# Altium schematic symbol library Schematic_Components.SchLib: 53 symbols
Pins are listed as number, name and electrical type; pins without a type are passive.

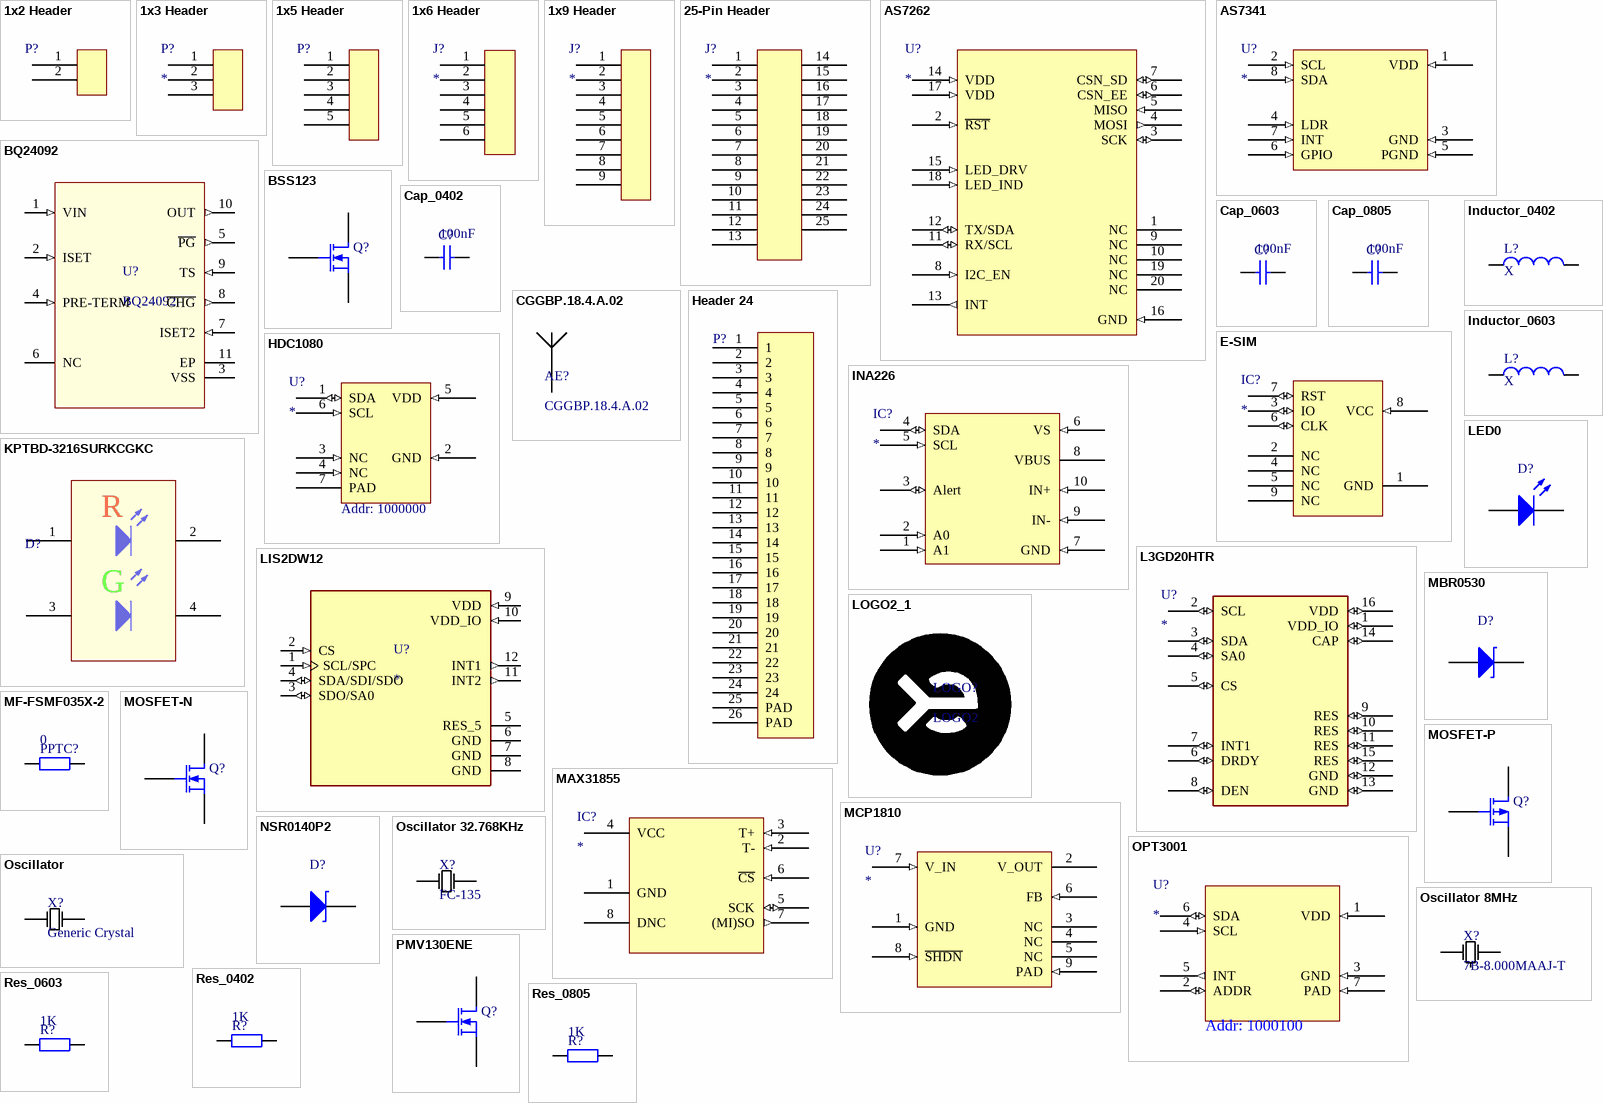
[diagram p0: symbols 1x2 Header to Res_0805]

## 1x2 Header
designator P?
1x2 Header
footprint 1x2 Header 1.27
pins: 1, 2

## 1x3 Header
designator P?
1x3 Header
footprint 1x3 Header 1.27
pins: 1, 2, 3

## 1x5 Header
designator P?
1x5 Header
footprint 1x5 Header 1.27
pins: 1, 2, 3, 4, 5

## 1x6 Header
designator J?
1x6 Header
footprint 1x6 Header 1.27
pins: 1, 2, 3, 4, 5, 6

## 1x9 Header
designator J?
1x9 Header
pins: 1, 2, 3, 4, 5, 6, 7, 8, 9

## 25-Pin Header
designator J?
25-Pin Header DSub
footprint 25-DSub-Rightangle-Female
pins: 1, 2, 3, 4, 5, 6, 7, 8, 9, 10, 11, 12, 13, 14, 15, 16, 17, 18, 19, 20, 21, 22, 23, 24, 25

## AS7262
designator U?
Spectrum Sensor
footprint AS7262
pins: 1 NC, 2 ~{RST} (in), 3 SCK (io), 4 MOSI (out), 5 MISO (in), 6 CSN_EE (io), 7 CSN_SD (io), 8 I2C_EN (in), 9 NC, 10 NC, 11 RX/SCL (io), 12 TX/SDA (io), 13 INT (out), 14 VDD (in), 15 LED_DRV (in), 16 GND (in), 17 VDD (in), 18 LED_IND (in), 19 NC, 20 NC

## AS7341
designator U?
Spectrum Sensor
footprint OLGA-8
pins: 1 VDD (in), 2 SCL (in), 3 GND (in), 4 LDR (in), 5 PGND (in), 6 GPIO (in), 7 INT (in), 8 SDA (in)

## BQ24092
designator U?
Battery Charger
footprint HVSSOP-10
pins: 1 VIN (in), 2 ISET (in), 3 VSS (power), 4 PRE-TERM (in), 5 ~{PG} (out), 6 NC, 7 ISET2 (in), 8 ~{CHG} (out), 9 TS (in), 10 OUT (out), 11 EP (power)

## BSS123
designator Q?
N-Channel MOSFET; Published: 8-Jun-2000; LatestRevisionDate: 17-Jul-2002; LatestRevisionNote: Re-released for DXP Platform.; PackageVersion: 1995/1996; PackageReference: E3; Publisher: Altium Limited; PackageDescription: TO, Flat Index; 3 In-Line, Axial Leads; Body Dia. 4.6mm; Lead Dia. 0.5 mm (max)
simulation model NMOS (MOSFET-N)
footprint SOT-23
footprint SOT-23
pins: 1 G, 2 S, 3 D

## Cap_0402
designator C?  value 100nF
Capacitor; Published: 8-Jun-2000; LatestRevisionDate: 17-Jul-2002; LatestRevisionNote: Re-released for DXP Platform.; PackageReference: RAD-0.3; Publisher: Altium Limited; PackageDescription: Radial Cap, Thru-Hole; 2 Leads; 0.3 in Pin Spacing
footprint 0402
simulation model CAP (Capacitor)
signal-integrity model Cap
pins: 1, 2

## Cap_0603
designator C?  value 100nF
Capacitor; Published: 8-Jun-2000; LatestRevisionDate: 17-Jul-2002; LatestRevisionNote: Re-released for DXP Platform.; PackageReference: RAD-0.3; Publisher: Altium Limited; PackageDescription: Radial Cap, Thru-Hole; 2 Leads; 0.3 in Pin Spacing
simulation model CAP (Capacitor)
signal-integrity model Cap
footprint 0603 (0603 footprint)
pins: 1, 2

## Cap_0805
designator C?  value 100nF
Capacitor; Published: 8-Jun-2000; LatestRevisionDate: 17-Jul-2002; LatestRevisionNote: Re-released for DXP Platform.; PackageReference: RAD-0.3; Publisher: Altium Limited; PackageDescription: Radial Cap, Thru-Hole; 2 Leads; 0.3 in Pin Spacing
simulation model CAP (Capacitor)
signal-integrity model Cap
footprint 0805 (Chip Capacitor, Body 2.0x1.3mm, IPC High Density)
pins: 1, 2

## CGGBP.18.4.A.02
designator AE?
No Description Available; Built_By: EMA_Justin; Vendor: Taoglas Limited; SourceLibrary: Add_to_database_2020-12-18; Datasheet: https://www.mouser.com/datasheet/2/398/CGGBP.18.4.A.02-1218625.pdf; Copyright: Copyright (C) 2018 Accelerated Designs. All rights reserved; Manufacturer_Part_Number: CGGBP.18.4.A.02; RefDes: RefDes; Type: DEV
footprint ANT_CGGBP.18.4.A.02_TAL
pins: 1

## E-SIM
designator IC?
E-Sim
footprint MFF2-ESIM
pins: 1 GND, 2 NC, 3 IO (io), 4 NC, 5 NC, 6 CLK (io), 7 RST (io), 8 VCC (in), 9 NC

## HDC1080
designator U?
Humidity Sensor
footprint PSON95P300X80_HS (PSON, 6-Leads, Body 3,00x3,00mm, Pitch 0,95mm, Thermal Pad 2,40x1,50mm, IPC Medium Density)
pins: 1 SDA (io), 2 GND (in), 3 NC (in), 4 NC (in), 5 VDD (in), 6 SCL (in), 7 PAD
text: Addr: 1000000

## Header 24
designator P?
Header, 24-Pin; LatestRevisionDate: 17-Jul-2002; LatestRevisionNote: Re-released for DXP Platform.; Publisher: Altium Limited
signal-integrity model Connector
footprint Flex_EInc_Connector
pins: 1, 2, 3, 4, 5, 6, 7, 8, 9, 10, 11, 12, 13, 14, 15, 16, 17, 18, 19, 20, 21, 22, 23, 24, 25 PAD, 26 PAD

## INA226
designator IC?
Bi-Directional Current and Power Monitor
footprint VSSOP-10
pins: 1 A1 (in), 2 A0 (in), 3 Alert (io), 4 SDA (io), 5 SCL (in), 6 VS (in), 7 GND (in), 8 VBUS (power), 9 IN- (in), 10 IN+ (in)

## Inductor_0402
designator L?  value X
Inductor
simulation model INDUCTOR (Inductor)
signal-integrity model Inductor
footprint 0402
pins: 1, 2

## Inductor_0603
designator L?  value X
Inductor
simulation model INDUCTOR (Inductor)
signal-integrity model Inductor
footprint 0603 (0603 footprint)
pins: 1, 2

## KPTBD-3216SURKCGKC
designator D?
Dual Led Red/Green; Published: 8-Jun-2000; LatestRevisionDate: 08-Jul-2005; LatestRevisionNote: Mech Layer 1 removed.; PackageReference: LED-0; Publisher: Altium Limited; PackageDescription: LED; 2 Leads
simulation model LED0 (Diode)
footprint 1206_DualLED (Red green Led)
pins: 1, 2, 3, 4
text: R; G

## L3GD20HTR
designator U?
Gyroscope X _Pitch_, Y _Roll_, Z _Yaw_ Â±245, 500, 2000 6.25Hz ~ 400Hz IÂ²C, SPI 16-LGA _3x3_; MF: STMicroelectronics; MP: L3GD20HTR; Digi-Key_Purchase_URL: https://www.digikey.com/product-detail/en/stmicroelectronics/L3GD20HTR/497-13931-1-ND/4357644?utm_source=snapeda&utm_medium=aggregator&utm_campaign=symbol; Digi-Key_Part_Number: 497-13931-1-ND; Package: LGA-16 STMicroelectronics; SnapEDA_Link: https://www.snapeda.com/parts/L3GD20HTR/STMicroelectronics/view-part/125620/?ref=snap; Value: *
footprint LGA-16
pins: 1 VDD_IO (io), 2 SCL (io), 3 SDA (io), 4 SA0 (io), 5 CS (io), 6 DRDY (io), 7 INT1 (io), 8 DEN (io), 9 RES (io), 10 RES (io), 11 RES (io), 12 GND (io), 13 GND (io), 14 CAP (io), 15 RES (io), 16 VDD (io)

## LED0
designator D?
Typical INFRARED GaAs LED; Published: 8-Jun-2000; LatestRevisionDate: 08-Jul-2005; LatestRevisionNote: Mech Layer 1 removed.; PackageReference: LED-0; Publisher: Altium Limited; PackageDescription: LED; 2 Leads
simulation model LED0 (Diode)
footprint 0603 (0603 footprint)
pins: 1 K, 2 A

## LIS2DW12
designator U?
Accelerometer X, Y, Z Axis Â±2g, 4g, 8g, 16g 0.5Hz ~ 672Hz 12-LGA _2x2_; MF: STMicroelectronics; MP: LIS2DH12; SnapEDA_Link: https://www.snapeda.com/parts/LIS2DH12/STMicroelectronics/view-part/480350/?ref=snap; Package: LGA-12 STMicroelectronics; Price: None; Value: *; Availability: Unavailable
footprint LGA-12
pins: 1 SCL/SPC (in), 2 CS (in), 3 SDO/SA0 (io), 4 SDA/SDI/SDO (io), 5 RES_5 (power), 6 GND (power), 7 GND (power), 8 GND (power), 9 VDD (in), 10 VDD_IO (in), 11 INT2 (out), 12 INT1 (out)

## LOGO2_1
designator LOGO?, comment LOGO2
footprint LOGO2

## MAX31855
designator IC?
Thermocouple temperature measurement IC
footprint SO 8
pins: 1 GND (power), 2 T- (in), 3 T+ (in), 4 VCC (power), 5 SCK (io), 6 ~{CS} (in), 7 (MI)SO (out), 8 DNC

## MBR0530
designator D?
SCHOTTKY BARRIER / RECTIFIER; Published: 8-Jun-2000; LatestRevisionDate: 08-Jul-2005; LatestRevisionNote: Mech Layer 1 removed.; PackageReference: LED-0; Publisher: Altium Limited; PackageDescription: LED; 2 Leads
simulation model LED0 (Diode)
footprint SOD-123
pins: 1 K, 2 A

## MCP1810
designator U?
3V Regulator, 150 mA
footprint VDFN8 (2x2mm)
pins: 1 GND (in), 2 V_OUT, 3 NC, 4 NC, 5 NC, 6 FB (in), 7 V_IN (in), 8 ~{SHDN} (in), 9 PAD (in)

## MF-FSMF035X-2
designator PPTC?  value 0
PPTC_0603; Published: 8-Jun-2000; LatestRevisionDate: 17-Jul-2002; LatestRevisionNote: Re-released for DXP Platform.; PackageReference: AXIAL-0.4; Publisher: Altium Limited; PackageDescription: Axial Device, Thru-Hole; 2 Leads; 0.4 in Pin Spacing
simulation model RESISTOR (Resistor)
signal-integrity model Res
footprint 0603 (0603 footprint)
pins: 1, 2

## MOSFET-N
designator Q?
N-Channel MOSFET; Published: 8-Jun-2000; LatestRevisionDate: 17-Jul-2002; LatestRevisionNote: Re-released for DXP Platform.; PackageVersion: 1995/1996; PackageReference: E3; Publisher: Altium Limited; PackageDescription: TO, Flat Index; 3 In-Line, Axial Leads; Body Dia. 4.6mm; Lead Dia. 0.5 mm (max)
footprint E3 (TO, Flat Index; 3 In-Line, Axial Leads; Body Dia. 4.6mm; Lead Dia. 0.5 mm (max))
simulation model NMOS (MOSFET-N)
pins: 1 G, 2 S, 3 D

## MOSFET-P
designator Q?
P-Channel MOSFET; Published: 8-Jun-2000; LatestRevisionDate: 17-Jul-2002; LatestRevisionNote: Re-released for DXP Platform.; PackageVersion: 1995/1996; PackageReference: E3; Publisher: Altium Limited; PackageDescription: TO, Flat Index; 3 In-Line, Axial Leads; Body Dia. 4.6mm; Lead Dia. 0.5 mm (max)
footprint E3 (TO, Flat Index; 3 In-Line, Axial Leads; Body Dia. 4.6mm; Lead Dia. 0.5 mm (max))
simulation model PMOS (MOSFET-P)
pins: 1 D, 2 G, 3 S

## NSR0140P2
designator D?
Typical INFRARED GaAs LED; Published: 8-Jun-2000; LatestRevisionDate: 08-Jul-2005; LatestRevisionNote: Mech Layer 1 removed.; PackageReference: LED-0; Publisher: Altium Limited; PackageDescription: LED; 2 Leads
simulation model LED0 (Diode)
footprint SOD-923
pins: 1 K, 2 A

## OPT3001
designator U?
Lux sensor
footprint USON-6
pins: 1 VDD (in), 2 ADDR (io), 3 GND (in), 4 SCL (in), 5 INT (out), 6 SDA (io), 7 PAD (in)
text: Addr: 1000100

## Oscillator
designator X?, comment Generic Crystal
footprint ABS05
pins: 1, 2

## Oscillator 8MHz
designator X?, comment 7B-8.000MAAJ-T
footprint Oscillator (4Pin 5x3.2)
pins: 1, 2 "GND", 3, 4 "GND"

## Oscillator 32.768KHz
designator X?, comment FC-135
footprint FC-135 (32.768 KHz Oscillator)
pins: 1, 2

## PMV130ENE
designator Q?
N-Channel MOSFET; Published: 8-Jun-2000; LatestRevisionDate: 17-Jul-2002; LatestRevisionNote: Re-released for DXP Platform.; PackageVersion: 1995/1996; PackageReference: E3; Publisher: Altium Limited; PackageDescription: TO, Flat Index; 3 In-Line, Axial Leads; Body Dia. 4.6mm; Lead Dia. 0.5 mm (max)
simulation model NMOS (MOSFET-N)
footprint SOT-23
pins: 1 G, 2 S, 3 D

## Res_0402
designator R?  value 1K
Resistor; Published: 8-Jun-2000; LatestRevisionDate: 17-Jul-2002; LatestRevisionNote: Re-released for DXP Platform.; PackageReference: AXIAL-0.4; Publisher: Altium Limited; PackageDescription: Axial Device, Thru-Hole; 2 Leads; 0.4 in Pin Spacing
footprint 0402
simulation model RESISTOR (Resistor)
signal-integrity model Res
pins: 1, 2

## Res_0603
designator R?  value 1K
Resistor; Published: 8-Jun-2000; LatestRevisionDate: 17-Jul-2002; LatestRevisionNote: Re-released for DXP Platform.; PackageReference: AXIAL-0.4; Publisher: Altium Limited; PackageDescription: Axial Device, Thru-Hole; 2 Leads; 0.4 in Pin Spacing
simulation model RESISTOR (Resistor)
signal-integrity model Res
footprint 0603 (0603 footprint)
pins: 1, 2

## Res_0805
designator R?  value 1K
Resistor; Published: 8-Jun-2000; LatestRevisionDate: 17-Jul-2002; LatestRevisionNote: Re-released for DXP Platform.; PackageReference: AXIAL-0.4; Publisher: Altium Limited; PackageDescription: Axial Device, Thru-Hole; 2 Leads; 0.4 in Pin Spacing
simulation model RESISTOR (Resistor)
signal-integrity model Res
footprint 0805 (Chip Capacitor, Body 2.0x1.3mm, IPC High Density)
pins: 1, 2

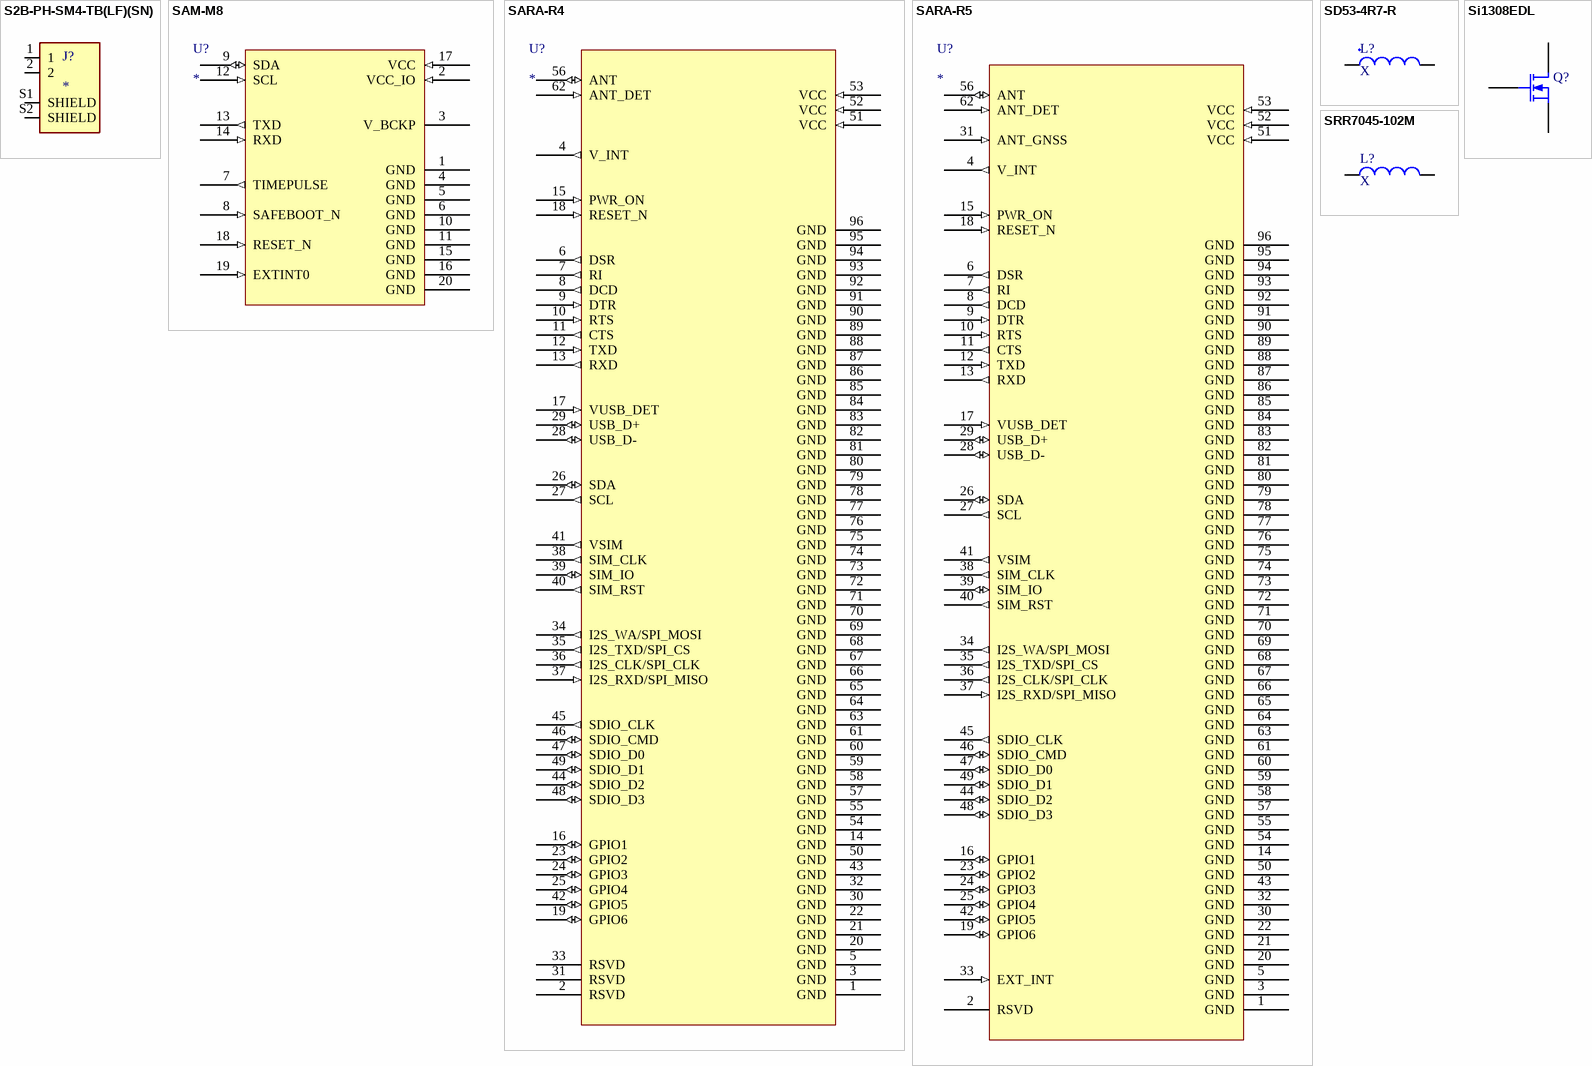
[diagram p1: symbols S2B-PH-SM4-TB(LF)(SN) to SRR7045-102M]

## S2B-PH-SM4-TB(LF)(SN)
designator J?
PH Series 2 Position 2 mm Pitch Surface Mount Side Entry Shrouded Header; MP: S2B-PH-SM4-TB(LF)(SN); MF: {'manufacturer': u'JST Sales'}; Availability: Unavailable; Package: None; Price: None; Value: *
footprint JST_S2B-PH-SM4-TB(LF)(SN)
pins: 1, 2, S1 SHIELD, S2 SHIELD

## SAM-M8
designator U?
GNSS moduleS
footprint SAM-M8 (ublox SAM antenna module)
pins: 1 GND, 2 VCC_IO (in), 3 V_BCKP (power), 4 GND, 5 GND, 6 GND, 7 TIMEPULSE (out), 8 SAFEBOOT_N (in), 9 SDA (io), 10 GND, 11 GND, 12 SCL (in), 13 TXD (out), 14 RXD (in), 15 GND, 16 GND, 17 VCC (in), 18 RESET_N (in), 19 EXTINT0 (in), 20 GND

## SARA-R4
designator U?
4G LTE module
footprint SARA-XX (GSM/GPRS and GSM/EGPRS/HSPA Cellular Module)
pins: 1 GND, 2 RSVD, 3 GND, 4 V_INT (out), 5 GND, 6 DSR (out), 7 RI (out), 8 DCD (out), 9 DTR (in), 10 RTS (in), 11 CTS (out), 12 TXD (in), 13 RXD (out), 14 GND, 15 PWR_ON (in), 16 GPIO1 (io), 17 VUSB_DET (in), 18 RESET_N (in), 19 GPIO6 (io), 20 GND, 21 GND, 22 GND, 23 GPIO2 (io), 24 GPIO3 (io), 25 GPIO4 (io), 26 SDA (io), 27 SCL (out), 28 USB_D- (io), 29 USB_D+ (io), 30 GND, 31 RSVD, 32 GND, 33 RSVD, 34 I2S_WA/SPI_MOSI (out), 35 I2S_TXD/SPI_CS (out), 36 I2S_CLK/SPI_CLK (out), 37 I2S_RXD/SPI_MISO (in), 38 SIM_CLK (out), 39 SIM_IO (io), 40 SIM_RST (out), 41 VSIM (out), 42 GPIO5 (io), 43 GND, 44 SDIO_D2 (io), 45 SDIO_CLK (out), 46 SDIO_CMD (io), 47 SDIO_D0 (io), 48 SDIO_D3 (io), 49 SDIO_D1 (io), 50 GND, 51 VCC (in), 52 VCC (in), 53 VCC (in), 54 GND, 55 GND, 56 ANT (io), 57 GND, 58 GND, 59 GND, 60 GND, 61 GND, 62 ANT_DET (in), 63 GND, 64 GND, 65 GND, 66 GND, 67 GND, 68 GND, 69 GND, 70 GND, 71 GND, 72 GND, 73 GND, 74 GND, 75 GND, 76 GND, 77 GND, 78 GND, 79 GND, 80 GND, 81 GND, 82 GND, 83 GND, 84 GND, 85 GND, 86 GND, 87 GND, 88 GND, 89 GND, 90 GND, 91 GND, 92 GND, 93 GND, 94 GND, 95 GND, 96 GND

## SARA-R5
designator U?
Sara-R5
footprint SARA-XX (GSM/GPRS and GSM/EGPRS/HSPA Cellular Module)
pins: 1 GND, 2 RSVD, 3 GND, 4 V_INT (out), 5 GND, 6 DSR (out), 7 RI (out), 8 DCD (out), 9 DTR (in), 10 RTS (in), 11 CTS (out), 12 TXD (in), 13 RXD (out), 14 GND, 15 PWR_ON (in), 16 GPIO1 (io), 17 VUSB_DET (in), 18 RESET_N (in), 19 GPIO6 (io), 20 GND, 21 GND, 22 GND, 23 GPIO2 (io), 24 GPIO3 (io), 25 GPIO4 (io), 26 SDA (io), 27 SCL (out), 28 USB_D- (io), 29 USB_D+ (io), 30 GND, 31 ANT_GNSS (in), 32 GND, 33 EXT_INT (in), 34 I2S_WA/SPI_MOSI (out), 35 I2S_TXD/SPI_CS (out), 36 I2S_CLK/SPI_CLK (out), 37 I2S_RXD/SPI_MISO (in), 38 SIM_CLK (out), 39 SIM_IO (io), 40 SIM_RST (out), 41 VSIM (out), 42 GPIO5 (io), 43 GND, 44 SDIO_D2 (io), 45 SDIO_CLK (out), 46 SDIO_CMD (io), 47 SDIO_D0 (io), 48 SDIO_D3 (io), 49 SDIO_D1 (io), 50 GND, 51 VCC (in), 52 VCC (in), 53 VCC (in), 54 GND, 55 GND, 56 ANT (io), 57 GND, 58 GND, 59 GND, 60 GND, 61 GND, 62 ANT_DET (in), 63 GND, 64 GND, 65 GND, 66 GND, 67 GND, 68 GND, 69 GND, 70 GND, 71 GND, 72 GND, 73 GND, 74 GND, 75 GND, 76 GND, 77 GND, 78 GND, 79 GND, 80 GND, 81 GND, 82 GND, 83 GND, 84 GND, 85 GND, 86 GND, 87 GND, 88 GND, 89 GND, 90 GND, 91 GND, 92 GND, 93 GND, 94 GND, 95 GND, 96 GND

## SD53-4R7-R
designator L?  value X
Inductor
simulation model INDUCTOR (Inductor)
signal-integrity model Inductor
footprint SD53-4R7-R
pins: 1, 2

## Si1308EDL
designator Q?
N-Channel MOSFET; Published: 8-Jun-2000; LatestRevisionDate: 17-Jul-2002; LatestRevisionNote: Re-released for DXP Platform.; PackageVersion: 1995/1996; PackageReference: E3; Publisher: Altium Limited; PackageDescription: TO, Flat Index; 3 In-Line, Axial Leads; Body Dia. 4.6mm; Lead Dia. 0.5 mm (max)
simulation model NMOS (MOSFET-N)
footprint SOT-23
pins: 1 G, 2 S, 3 D

## SRR7045-102M
designator L?  value X
Inductor
simulation model INDUCTOR (Inductor)
signal-integrity model Inductor
footprint SRR7045-102M
pins: 1, 2

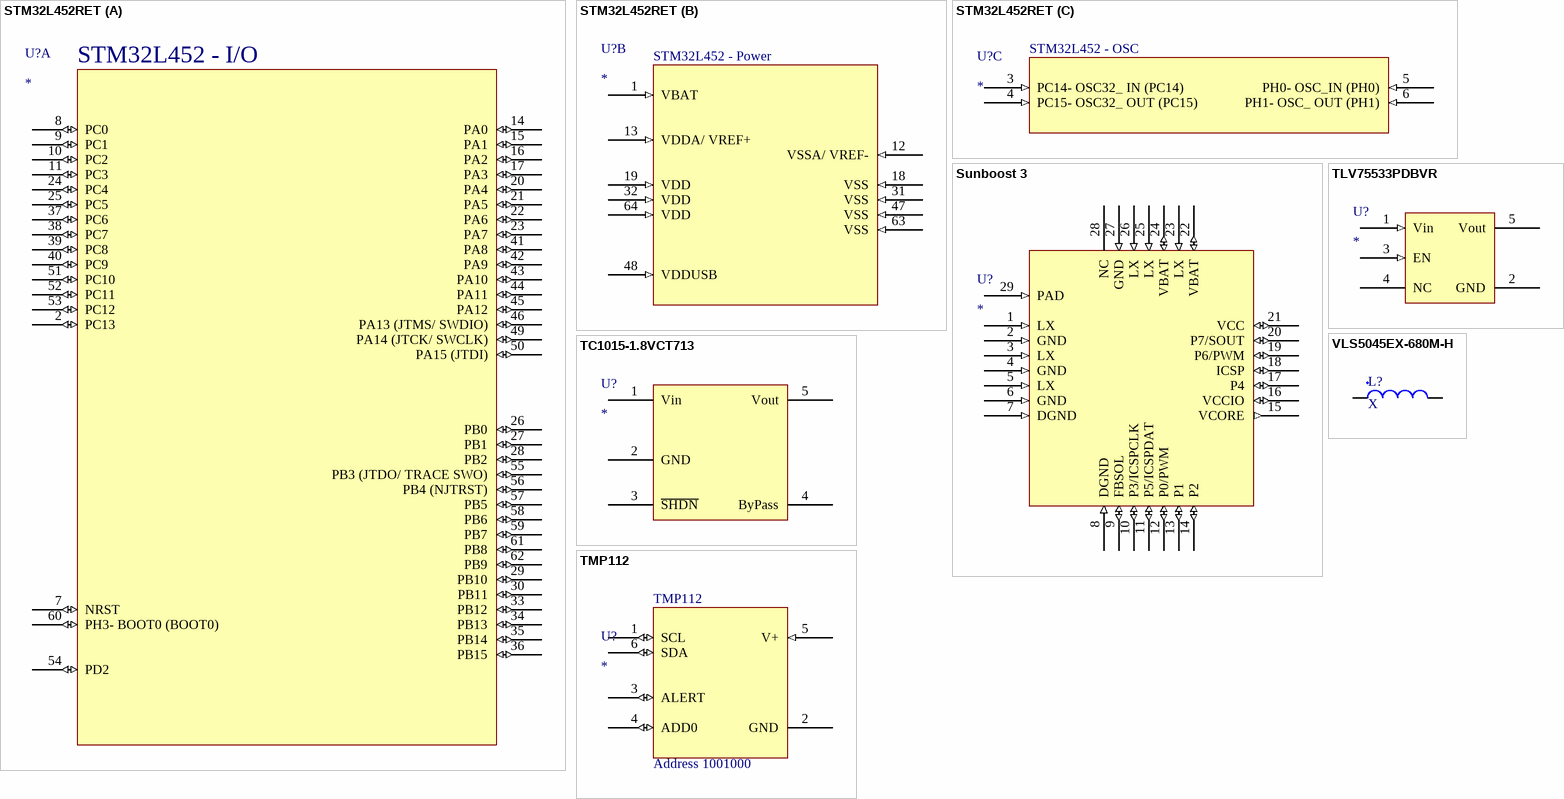
[diagram p2: symbols STM32L452RET to VLS5045EX-680M-H]

## STM32L452RET
designator U?
MCU; Man. Part no: STM32L452RET6; Digikey no: 497-17219-ND; Farnell no: 2758810
footprint LQFP64
part A pins: 2 PC13 (io) "EVENTOUT", 7 NRST (io), 8 PC0 (io) "LPTIM1_IN1, I2C4_SCL, I2C3_SCL, LPUART1_RX, LPTIM2_IN1, EVENTOUT", 9 PC1 (io) "TRACED0, LPTIM1_OUT, I2C4_SDA, I2C3_SDA, LPUART1_TX, EVENTOUT", 10 PC2 (io) "LPTIM1_IN2, SPI2_MISO, DFSDM1_CKOUT, EVENTOUT", 11 PC3 (io) "LPTIM1_ETR, SPI2_MOSI, SAI1_SD_A, LPTIM2_ETR, EVENTOUT", 14 PA0 (io) "TIM2_CH1, USART2_CTS, UART4_TX, COMP1_OUT, SAI1_EXTCLK, TIM2_ETR, EVENTOUT", 15 PA1 (io) "TIM2_CH2, I2C1_SMBA, SPI1_SCK, USART2_RTS_DE, UART4_RX, TIM15_CH1N, EVENTOUT", 16 PA2 (io) "TIM2_CH3, USART2_TX, LPUART1_TX, QUADSPI_BK1_NCS, COMP2_OUT, TIM15_CH1, EVENTOUT", 17 PA3 (io) "TIM2_CH4, USART2_RX, LPUART1_RX, QUADSPI_CLK, SAI1_MCLK_A, TIM15_CH2, EVENTOUT", 20 PA4 (io) "SPI1_NSS, SPI3_NSS, USART2_CK, SAI1_FS_B, LPTIM2_OUT, EVENTOUT", 21 PA5 (io) "TIM2_CH1, TIM2_ETR, SPI1_SCK, DFSDM1_CKOUT, LPTIM2_ETR, EVENTOUT", 22 PA6 (io) "TIM1_BKIN, TIM3_CH1, SPI1_MISO, COMP1_OUT, USART3_CTS, LPUART1_CTS, QUADSPI_BK1_IO3, TIM1_BKIN_COMP2, TIM16_CH1, EVENTOUT", 23 PA7 (io) "TIM1_CH1N, TIM3_CH2, I2C3_SCL, SPI1_MOSI, DFSDM1_DATIN0, QUADSPI_BK1_IO2, COMP2_OUT, EVENTOUT", 24 PC4 (io) "USART3_TX, EVENTOUT", 25 PC5 (io) "USART3_RX, EVENTOUT", 26 PB0 (io) "TIM1_CH2N, TIM3_CH3, SPI1_NSS, DFSDM1_CKIN0, USART3_CK, QUADSPI_BK1_IO1, COMP1_OUT, SAI1_EXTCLK, EVENTOUT", 27 PB1 (io) "TIM1_CH3N, TIM3_CH4, DFSDM1_DATIN0, USART3_RTS_DE, LPUART1_RTS_DE, QUADSPI_BK1_IO0, LPTIM2_IN1, EVENTOUT", 28 PB2 (io) "RTC_OUT, LPTIM1_OUT, I2C3_SMBA, DFSDM1_CKIN0, EVENTOUT", 29 PB10 (io) "TIM2_CH3, I2C4_SCL, I2C2_SCL, SPI2_SCK, USART3_TX, LPUART1_RX, TSC_SYNC, QUADSPI_CLK, COMP1_OUT, SAI1_SCK_A, EVENTOUT", 30 PB11 (io) "TIM2_CH4, I2C4_SDA, I2C2_SDA, USART3_RX, LPUART1_TX, QUADSPI_BK1_NCS, COMP2_OUT, EVENTOUT", 33 PB12 (io) "TIM1_BKIN, TIM1_BKIN_COMP2, I2C2_SMBA, SPI2_NSS, DFSDM1_DATIN1, USART3_CK, LPUART1_RTS_DE, TSC_G1_IO1, CAN1_RX, SAI1_FS_A, TIM15_BKIN, EVENTOUT", 34 PB13 (io) "TIM1_CH1N, I2C2_SCL, SPI2_SCK, DFSDM1_CKIN1, USART3_CTS, LPUART1_CTS, TSC_G1_IO2, CAN1_TX, SAI1_SCK_A, TIM15_CH1N, EVENTOUT", 35 PB14 (io) "TIM1_CH2N, I2C2_SDA, SPI2_MISO, DFSDM1_DATIN2, USART3_RTS_DE, TSC_G1_IO3, SAI1_MCLK_A, TIM15_CH1, EVENTOUT", 36 PB15 (io) "RTC_REFIN, TIM1_CH3N, SPI2_MOSI, DFSDM1_CKIN2, TSC_G1_IO4, SAI1_SD_A, TIM15_CH2, EVENTOUT", 37 PC6 (io) "TIM3_CH1, DFSDM1_CKIN3, TSC_G4_IO1, SDMMC1_D6, EVENTOUT", 38 PC7 (io) "TIM3_CH2, DFSDM1_DATIN3, TSC_G4_IO2, SDMMC1_D7, EVENTOUT", 39 PC8 (io) "TIM3_CH3, TSC_G4_IO3, SDMMC1_D0, EVENTOUT", 40 PC9 (io) "TIM3_CH4, TSC_G4_IO4, USB_NOE, SDMMC1_D1, EVENTOUT", 41 PA8 (io) "MCO, TIM1_CH1, DFSDM1_CKIN1, USART1_CK, SAI1_SCK_A, LPTIM2_OUT, EVENTOUT", 42 PA9 (io) "TIM1_CH2, I2C1_SCL, DFSDM1_DATIN1, USART1_TX, SAI1_FS_A, TIM15_BKIN, EVENTOUT", 43 PA10 (io) "TIM1_CH3, I2C1_SDA, USART1_RX, USB_CRS_SYNC, SAI1_SD_A, EVENTOUT", 44 PA11 (io) "TIM1_CH4, TIM1_BKIN2, SPI1_MISO, COMP1_OUT, USART1_CTS, CAN1_RX, USB_DM, TIM1_BKIN2_COMP1, EVENTOUT", 45 PA12 (io) "TIM1_ETR, SPI1_MOSI, USART1_RTS_DE, CAN1_TX, USB_DP, EVENTOUT", 46 PA13 (JTMS/ SWDIO) (io) "JTMS/SWDAT, IR_OUT, USB_NOE, SAI1_SD_B, EVENTOUT", 49 PA14 (JTCK/ SWCLK) (io) "JTCK/SWCLK, LPTIM1_OUT, I2C1_SMBA, I2C4_SMBA, SAI1_FS_B, EVENTOUT", 50 PA15 (JTDI) (io) "JTDI, TIM2_CH1, TIM2_ETR, USART2_RX, SPI1_NSS, SPI3_NSS, USART3_RTS_DE, UART4_RTS_DE, TSC_G3_IO1, EVENTOUT", 51 PC10 (io) "TRACED1, SPI3_SCK, USART3_TX, UART4_TX, TSC_G3_IO2, SDMMC1_D2, EVENTOUT", 52 PC11 (io) "SPI3_MISO, USART3_RX, UART4_RX, TSC_G3_IO3, SDMMC1_D3, EVENTOUT", 53 PC12 (io) "TRACED3, SPI3_MOSI, USART3_CK, TSC_G3_IO4, SDMMC1_CK, EVENTOUT", 54 PD2 (io) "TRACED2, TIM3_ETR, USART3_RTS_DE, TSC_SYNC, SDMMC1_CMD, EVENTOUT", 55 PB3 (JTDO/ TRACE SWO) (io) "JTDO/TRACESWO, TIM2_CH2, SPI1_SCK, SPI3_SCK, USART1_RTS_DE, SAI1_SCK_B, EVENTOUT", 56 PB4 (NJTRST) (io) "NJTRST, TIM3_CH1, I2C3_SDA, SPI1_MISO, SPI3_MISO, USART1_CTS, TSC_G2_IO1, SAI1_MCLK_B, EVENTOUT", 57 PB5 (io) "LPTIM1_IN1, TIM3_CH2, CAN1_RX, I2C1_SMBA, SPI1_MOSI, SPI3_MOSI, USART1_CK, TSC_G2_IO2, COMP2_OUT, SAI1_SD_B, TIM16_BKIN, EVENTOUT", 58 PB6 (io) "LPTIM1_ETR, I2C1_SCL, I2C4_SCL, USART1_TX, CAN1_TX, TSC_G2_IO3, SAI1_FS_B, TIM16_CH1N, EVENTOUT", 59 PB7 (io) "LPTIM1_IN2, I2C1_SDA, I2C4_SDA, USART1_RX, UART4_CTS, TSC_G2_IO4, EVENTOUT", 60 PH3- BOOT0 (BOOT0) (io) "EVENTOUT", 61 PB8 (io) "I2C1_SCL, CAN1_RX, SDMMC1_D4, SAI1_MCLK_A, TIM16_CH1, EVENTOUT", 62 PB9 (io) "IR_OUT, I2C1_SDA, SPI2_NSS, CAN1_TX, SDMMC1_D5, SAI1_FS_A, EVENTOUT"
part B pins: 1 VBAT (in) "S", 12 VSSA/ VREF- (in) "S", 13 VDDA/ VREF+ (in) "S", 18 VSS (in) "S", 19 VDD (in) "S", 31 VSS (in) "S", 32 VDD (in) "S", 47 VSS (in) "S", 48 VDDUSB (in) "S", 63 VSS (in) "S", 64 VDD (in) "S"
part C pins: 3 PC14- OSC32_ IN (PC14) (in) "OSC32_IN", 4 PC15- OSC32_ OUT (PC15) (in) "OSC32_OUT", 5 PH0- OSC_IN (PH0) (in) "OSC_IN", 6 PH1- OSC_ OUT (PH1) (in) "OSC_OUT"
part A text: STM32L452 - I/O
part B text: STM32L452 - Power
part C text: STM32L452 - OSC

## Sunboost 3
designator U?
Initvation Sunboost 3
footprint 28-QFN_0.4mm
pins: 1 LX (in), 2 GND (in), 3 LX (in), 4 GND (in), 5 LX (in), 6 GND (in), 7 DGND (in), 8 DGND (in), 9 FBSOL (io), 10 P3/ICSPCLK (io), 11 P5/ICSPDAT (io), 12 P0/PWM (io), 13 P1 (io), 14 P2 (io), 15 VCORE (out), 16 VCCIO (io), 17 P4 (io), 18 ICSP (io), 19 P6/PWM (io), 20 P7/SOUT (io), 21 VCC (io), 22 VBAT (io), 23 LX (in), 24 VBAT (io), 25 LX (in), 26 LX (in), 27 GND (in), 28 NC, 29 PAD (in)

## TC1015-1.8VCT713
designator U?
1.8V Regulator
footprint SOT-23 (5)
pins: 1 Vin, 2 GND, 3 ~{SHDN}, 4 ByPass, 5 Vout

## TLV75533PDBVR
designator U?
3.3V regulator
footprint SOT-23 (5)
pins: 1 Vin (in), 2 GND, 3 EN (in), 4 NC, 5 Vout

## TMP112
designator U?
Temperature measurement unit; Man. Part no.: TMP112AIDRLR; Digikey no.: 296-38578-1-ND; Farnell no.: 3009067
footprint SOT563 (6)
pins: 1 SCL (io), 2 GND, 3 ALERT (io), 4 ADD0 (io), 5 V+ (in), 6 SDA (io)
text: Address 1001000

## VLS5045EX-680M-H
designator L?  value X
Inductor 68 uH
simulation model INDUCTOR (Inductor)
signal-integrity model Inductor
footprint VLS5045EX (Coil 5mm x 5,3mm x 4,5mm)
pins: 1, 2